# Altium schematic symbol library RES.SchLib: 10 symbols
Pins are listed as number, name and electrical type; pins without a type are passive.

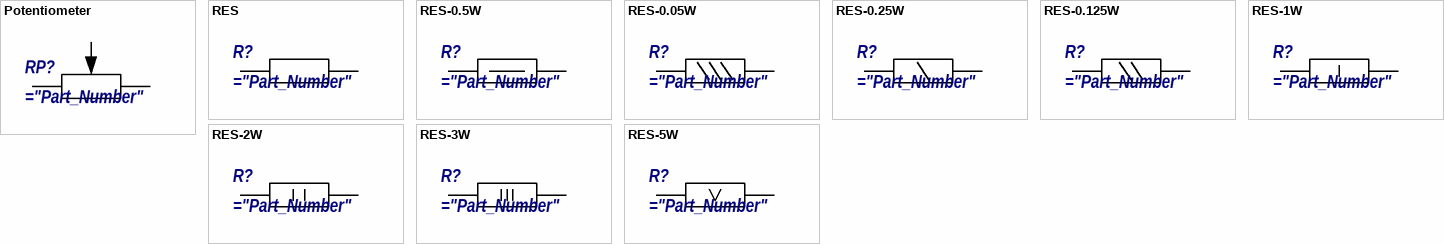
[diagram p0: symbols Potentiometer to RES-5W]

## Potentiometer
designator RP?
="Description"
simulation model RESdiv (Model Description)
pins: 1, 2, 3

## RES
designator R?
="Description"
simulation model R_Resistor_Default (Model Description)
signal-integrity model Model Name (Model Description)
pins: 1, 2

## RES-0.5W
designator R?
="Description"
simulation model R_Resistor_Default (Model Description)
signal-integrity model Model Name (Model Description)
pins: 1, 2

## RES-0.05W
designator R?
="Description"; Rule: UNIONINDEX=0|RULEKIND=SMDNeckDown|NETSCOPE=AnyNet|LAYERKIND=SameLayer|NAME=Schematic SMD Neck-Down Constraint|PERCENT=50.000|UNIT=Metric
simulation model R_Resistor_Default (Model Description)
signal-integrity model Model Name (Model Description)
pins: 1, 2

## RES-0.25W
designator R?
="Description"; Rule: UNIONINDEX=0|RULEKIND=SMDNeckDown|NETSCOPE=AnyNet|LAYERKIND=SameLayer|NAME=Schematic SMD Neck-Down Constraint|PERCENT=50.000|UNIT=Metric
simulation model R_Resistor_Default (Model Description)
signal-integrity model Model Name (Model Description)
pins: 1, 2

## RES-0.125W
designator R?
="Description"; Rule: UNIONINDEX=0|RULEKIND=SMDNeckDown|NETSCOPE=AnyNet|LAYERKIND=SameLayer|NAME=Schematic SMD Neck-Down Constraint|PERCENT=50.000|UNIT=Metric
simulation model R_Resistor_Default (Model Description)
signal-integrity model Model Name (Model Description)
pins: 1, 2

## RES-1W
designator R?
="Description"
simulation model R_Resistor_Default (Model Description)
signal-integrity model Model Name (Model Description)
pins: 1, 2

## RES-2W
designator R?
="Description"
simulation model R_Resistor_Default (Model Description)
signal-integrity model Model Name (Model Description)
pins: 1, 2

## RES-3W
designator R?
="Description"
simulation model R_Resistor_Default (Model Description)
signal-integrity model Model Name (Model Description)
pins: 1, 2

## RES-5W
designator R?
="Description"
simulation model R_Resistor_Default (Model Description)
signal-integrity model Model Name (Model Description)
pins: 1, 2